# Altium footprint library TMR 3-xx1x.PcbLib: 1 footprints
Each footprint in its own frame and in the unit in brackets; x right, y up, seen from the top. Pads: shape width x height; smd on the part's side, far side on the other; paste and mask are expansions set on the pad; w line width, h text height; cw(c..) or ccw(c..) is an arc to the next point about the centre after c.
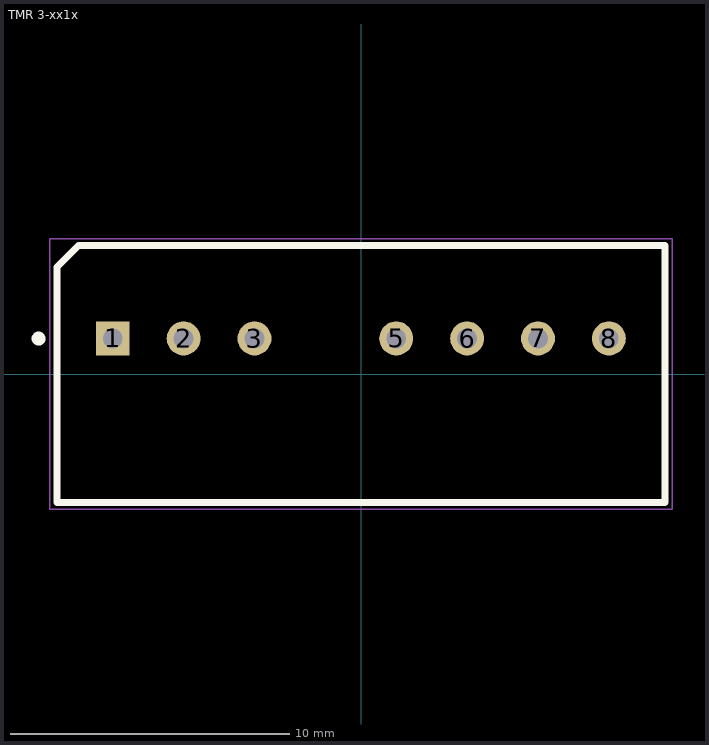
[diagram p0: the footprint, top view; thin cyan lines are the x and y axes]

## TMR 3-xx1x [mm]
pads (7):
  rect 1.218x1.218 hole 0.71: 1(-8.9,1.275)
  round 1.218 hole 0.71: 2(-6.36,1.275) 3(-3.82,1.275) 5(1.26,1.275) 6(3.8,1.275) 7(6.34,1.275) 8(8.88,1.275)
Top Overlay:
  circle w0.3: c-11.557,1.27 r0.1
  lines w0.254: -10.9,-4.6 -10.9,3.832 -10.132,4.6 10.9,4.6 10.9,-4.6 -10.9,-4.6
Mechanical 15:
  lines w0.05: -11.15,-4.85 -11.15,4.85 11.15,4.85 11.15,-4.85 -11.15,-4.85
3D body "TMR 3-2410.STEP": height 11.21, standoff -4.09, extent -10.91,-4.551 10.89,4.549